# Altium schematic symbol library RJ45- Amphenol, RJHSE-x38x-A1.SchLib: 1 symbol
Pins are listed as number, name and electrical type; pins without a type are passive.

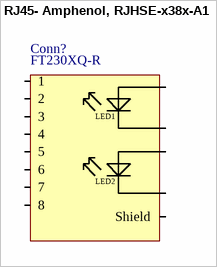
[diagram p0: symbol RJ45- Amphenol, RJHSE-x38x-A1]

## RJ45- Amphenol, RJHSE-x38x-A1
designator Conn?  Manufacturer Part number: FT230XQ-R  (hidden comment: *)
IC,Interface,FTDI,QFN16; component category: capacitor*; ComponentLink1Description: datasheet; ComponentLink1URL: *; ComponentLink2Description: supplier link; ComponentLink2URL: *; component type: ceramic; supplier link: *; supplier currency: *; price,max: *; price,min: *; Quantity,max: *; Quantity,min: *; Operating Temparature,max: +85; Operating Temparature,min: -40; Supplier Part number: *; Supplier: Digikey; Manufacturer: FTDI; Package: SOP-8
footprint RJ45- Amphenol, RJHSE-x38x-A1
pins: 1, 2, 3, 4, 5, 6, 7, 8, L1-A, L1-C, L2-A, L2-C, Shield
text: LED1; LED2